# EAGLE library part MY_MICROSD_CARD1.1 (library smylbr)
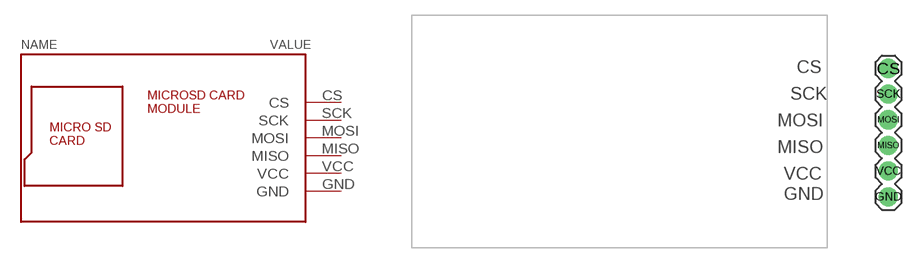
[diagram p5: symbol with the pads of MICROSD_CARD1.1; footprint MICROSD_CARD1.1]

Designator prefix -

## MY_MICROSD_CARD1.1  [MICROSD_CARD1.1]
CS  CS
GND  GND
MISO  MISO
MOSI  MOSI
SCK  SCK
VCC  VCC

## Footprint MICROSD_CARD1.1 (pad centres in mm)
drill 1.016 pad 1.88: CS 17.135,6.835; GND 17.135,-5.865; MISO 17.135,-0.785; MOSI 17.135,1.755; SCK 17.135,4.295; VCC 17.135,-3.325